# EAGLE library part ADEUNIS_ARF7044A (library igreplane)
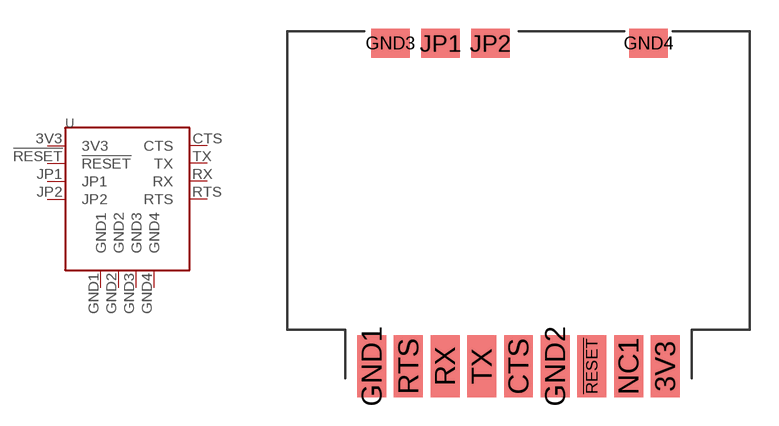
[diagram p2: symbol with the pads of ADEUNIS_ARF7044A; footprint ADEUNIS_ARF7044A]

Designator prefix -

## ADEUNIS_ARF7044A  [ADEUNIS_ARF7044A]
3V3  3V3
!RESET!  !RESET!
CTS  CTS
GND1  GND1
GND2  GND2
GND3  GND3
GND4  GND4
JP1  JP1
JP2  JP2
RTS  RTS
RX  RX
TX  TX

## Footprint ADEUNIS_ARF7044A (pad centres in mm)
smd 1.5 x 3.2: 3V3 7.62,-8.383; !RESET! 3.81,-8.383; CTS 0,-8.383; GND1 -7.62,-8.383; GND2 1.905,-8.383; NC1 5.715,-8.383; RTS -5.715,-8.383; RX -3.81,-8.383; TX -1.905,-8.383
smd 2 x 1.5: GND3 -6.65,8.383; GND4 6.75,8.383; JP1 -4.05,8.383; JP2 -1.45,8.383